# EAGLE library part 61003621821 (library Wurth_Elektronik_Electromechanic_Board_to_Board_Connectors_rev16a)
WR-PHD 2.54mm Dual SMT Socket Header, 36 Pins =>Code : Con_BTB_SHD_2.54_1_SMT_61003621821 <http://katalog.we-online.de/media/images/eican/Con_BTB_SHD_2.54_1_SMT_6100xx21821_pf2.jpg> Details see: http://katalog.we-online.de/en/em/610_0xx_218_21 Created 2014-05-30, Karrer Zheng 2014 (C) Würth Elektronik
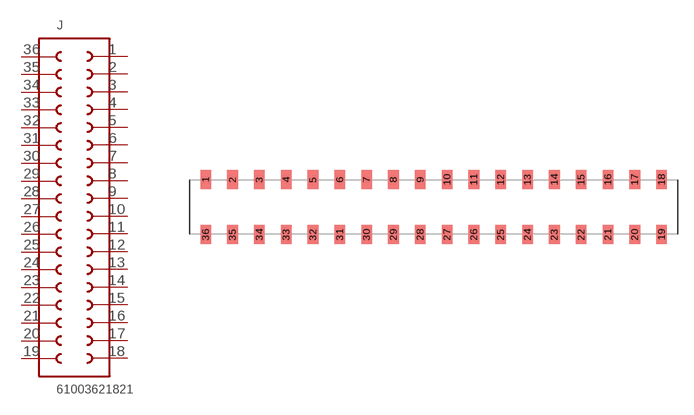
[diagram p227: symbol with the pads of 61003621821; footprint 61003621821]

Designator prefix J

## 61003621821  [61003621821]
1  1  pas
2  2  pas
3  3  pas
4  4  pas
5  5  pas
6  6  pas
7  7  pas
8  8  pas
9  9  pas
10  10  pas
11  11  pas
12  12  pas
13  13  pas
14  14  pas
15  15  pas
16  16  pas
17  17  pas
18  18  pas
19  19  pas
20  20  pas
21  21  pas
22  22  pas
23  23  pas
24  24  pas
25  25  pas
26  26  pas
27  27  pas
28  28  pas
29  29  pas
30  30  pas
31  31  pas
32  32  pas
33  33  pas
34  34  pas
35  35  pas
36  36  pas

## Footprint 61003621821 (pad centres in mm)
WR-PHD 2.54mm Dual SMT Socket Header, 36 Pins
smd 1 x 1.8: 1 -21.59,2.6; 2 -19.05,2.6; 3 -16.51,2.6; 4 -13.97,2.6; 5 -11.43,2.6; 6 -8.89,2.6; 7 -6.35,2.6; 8 -3.81,2.6; 9 -1.27,2.6; 10 1.27,2.6; 11 3.81,2.6; 12 6.35,2.6; 13 8.89,2.6; 14 11.43,2.6; 15 13.97,2.6; 16 16.51,2.6; 17 19.05,2.6; 18 21.59,2.6; 19 21.59,-2.6; 20 19.05,-2.6; 21 16.51,-2.6; 22 13.97,-2.6; 23 11.43,-2.6; 24 8.89,-2.6; 25 6.35,-2.6; 26 3.81,-2.6; 27 1.27,-2.6; 28 -1.27,-2.6; 29 -3.81,-2.6; 30 -6.35,-2.6; 31 -8.89,-2.6; 32 -11.43,-2.6; 33 -13.97,-2.6; 34 -16.51,-2.6; 35 -19.05,-2.6; 36 -21.59,-2.6